# EAGLE library part 93AA76C-I/P (library Microchip_By_element14_Batch_1)
8K Microwire Compatible Serial EEPROM
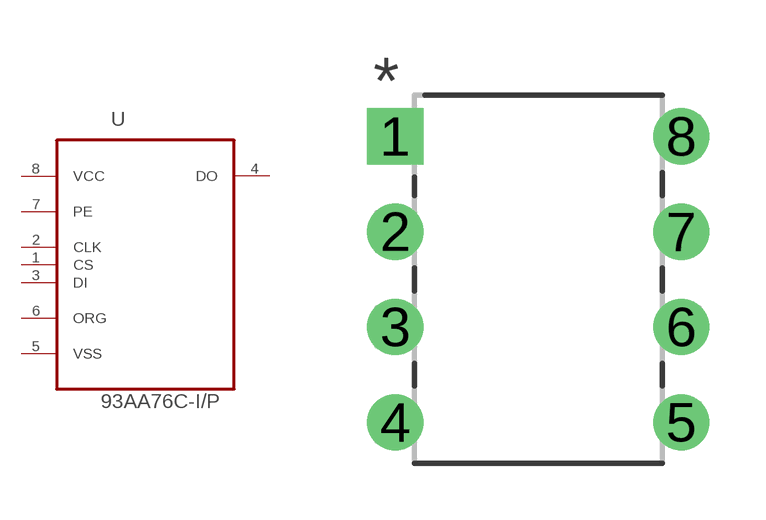
[diagram p207: symbol with the pads of DIP254P762X432-8; footprint DIP254P762X432-8]

Designator prefix -

## 93AA76C-I/P (MPN: 93AA76C-I/P; OC_FARNELL: -; OC_NEWARK: 61H6457; PACKAGE: DIP-8; SUPPLIER: MICROCHIP)  [DIP254P762X432-8]
1  CS  in
2  CLK  in
3  DI  in
4  DO  out
5  VSS  pas
6  ORG  pas
7  PE  in
8  VCC  pwr

## Footprint DIP254P762X432-8 (pad centres in mm)
drill 0.991 square: 1 -7.62,7.62
drill 0.991: 2 -7.62,5.08; 3 -7.62,2.54; 4 -7.62,0; 5 0,0; 6 0,2.54; 7 0,5.08; 8 0,7.62